# EAGLE library part DRV8302 (library bldc_lib)
DRV8302 3-Phase Brushless Motor Pre-Driver with Dual Current Sense Amps and Buck Converter (PWM Ctrl)
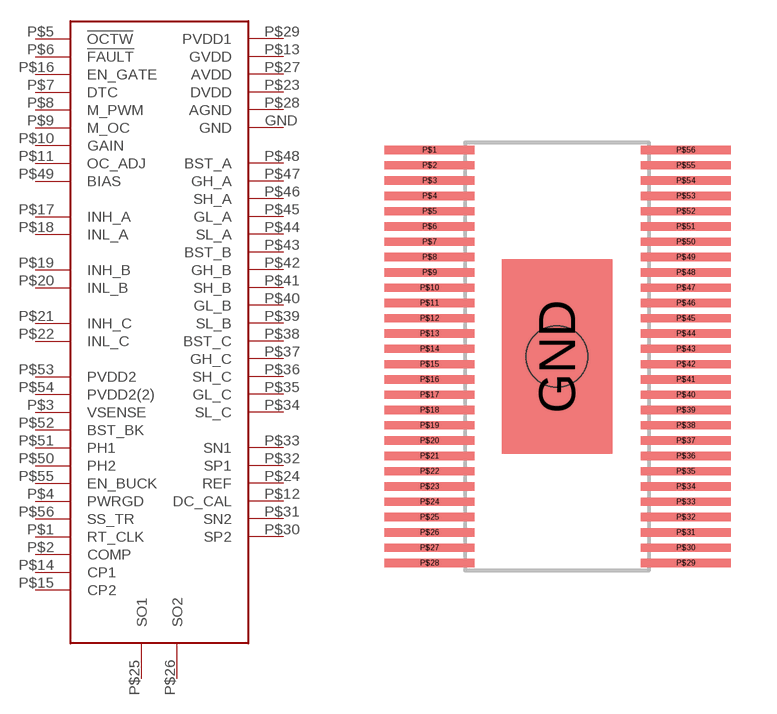
[diagram p0: symbol with the pads of DRV8302; footprint DRV8302]

Designator prefix -

## DRV8302  [DRV8302]
GND  GND
P$1  RT_CLK
P$2  COMP
P$3  VSENSE
P$4  PWRGD
P$5  !OCTW
P$6  !FAULT
P$7  DTC
P$8  M_PWM
P$9  M_OC
P$10  GAIN
P$11  OC_ADJ
P$12  DC_CAL
P$13  GVDD
P$14  CP1
P$15  CP2
P$16  EN_GATE
P$17  INH_A
P$18  INL_A
P$19  INH_B
P$20  INL_B
P$21  INH_C
P$22  INL_C
P$23  DVDD
P$24  REF
P$25  SO1
P$26  SO2
P$27  AVDD
P$28  AGND
P$29  PVDD1
P$30  SP2
P$31  SN2
P$32  SP1
P$33  SN1
P$34  SL_C
P$35  GL_C
P$36  SH_C
P$37  GH_C
P$38  BST_C
P$39  SL_B
P$40  GL_B
P$41  SH_B
P$42  GH_B
P$43  BST_B
P$44  SL_A
P$45  GL_A
P$46  SH_A
P$47  GH_A
P$48  BST_A
P$49  BIAS
P$50  PH2
P$51  PH1
P$52  BST_BK
P$53  PVDD2
P$54  PVDD2(2)
P$55  EN_BUCK
P$56  SS_TR

## Footprint DRV8302 (pad centres in mm)
smd 3.61 x 6.35: GND 0,0
smd 2.94 x 0.27: P$1 -4.167,6.75; P$2 -4.167,6.25; P$3 -4.167,5.75; P$4 -4.167,5.25; P$5 -4.167,4.75; P$6 -4.167,4.25; P$7 -4.167,3.75; P$8 -4.167,3.25; P$9 -4.167,2.75; P$10 -4.167,2.25; P$11 -4.167,1.75; P$12 -4.167,1.25; P$13 -4.167,0.75; P$14 -4.167,0.25; P$15 -4.167,-0.25; P$16 -4.167,-0.75; P$17 -4.167,-1.25; P$18 -4.167,-1.75; P$19 -4.167,-2.25; P$20 -4.167,-2.75; P$21 -4.167,-3.25; P$22 -4.167,-3.75; P$23 -4.167,-4.25; P$24 -4.167,-4.75; P$25 -4.167,-5.25; P$26 -4.167,-5.75; P$27 -4.167,-6.25; P$28 -4.167,-6.75; P$29 4.217,-6.75; P$30 4.217,-6.25; P$31 4.217,-5.75; P$32 4.217,-5.25; P$33 4.217,-4.75; P$34 4.217,-4.25; P$35 4.217,-3.75; P$36 4.217,-3.25; P$37 4.217,-2.75; P$38 4.217,-2.25; P$39 4.217,-1.75; P$40 4.217,-1.25; P$41 4.217,-0.75; P$42 4.217,-0.25; P$43 4.217,0.25; P$44 4.217,0.75; P$45 4.217,1.25; P$46 4.217,1.75; P$47 4.217,2.25; P$48 4.217,2.75; P$49 4.217,3.25; P$50 4.217,3.75; P$51 4.217,4.25; P$52 4.217,4.75; P$53 4.217,5.25; P$54 4.217,5.75; P$55 4.217,6.25; P$56 4.217,6.75
hole 2 at 0,0